# EAGLE library part CD4067BEE4 (library CD4067BEE4)
Analog Multiplexer Single 16:1 Source: Datasheet <https://pdf1.alldatasheet.com/datasheet-pdf/view/551558/TI/CD4067BEE4.html>
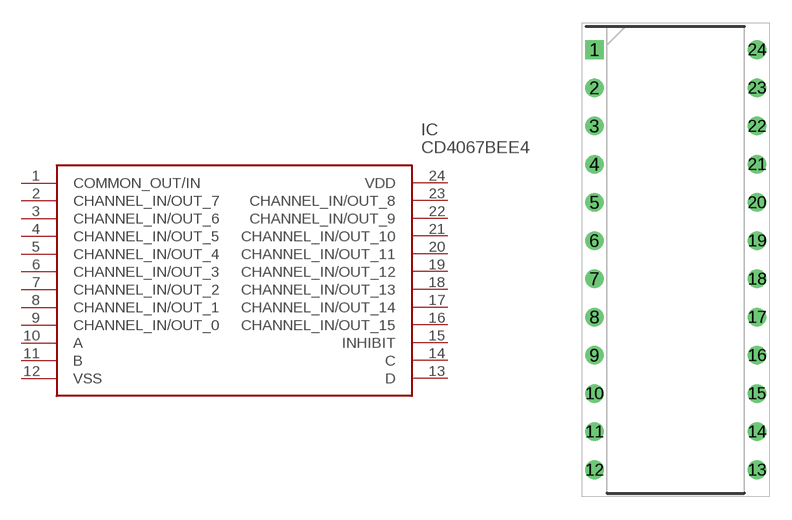
[diagram p0: symbol with the pads of DIP1080W53P254L3104H508Q24N; footprint DIP1080W53P254L3104H508Q24N]

Designator prefix IC

## CD4067BEE4 (Description: Analog Multiplexer Single 16:1; Height: 5.08mm; Manufacturer_Name: Texas Instruments; Manufacturer_Part_Number: CD4067BEE4; Mouser_Part_Number: 595-CD4067BEE4; Mouser_Price-Stock: https://www.mouser.co.uk/ProductDetail/Texas-Instruments/CD4067BEE4?qs=LSR%252BNeaw%2FwAOj6GB2EY6rw%3D%3D)  [DIP1080W53P254L3104H508Q24N]
1  COMMON_OUT/IN
2  CHANNEL_IN/OUT_7
3  CHANNEL_IN/OUT_6
4  CHANNEL_IN/OUT_5
5  CHANNEL_IN/OUT_4
6  CHANNEL_IN/OUT_3
7  CHANNEL_IN/OUT_2
8  CHANNEL_IN/OUT_1
9  CHANNEL_IN/OUT_0
10  A
11  B
12  VSS
13  D
14  C
15  INHIBIT
16  CHANNEL_IN/OUT_15
17  CHANNEL_IN/OUT_14
18  CHANNEL_IN/OUT_13
19  CHANNEL_IN/OUT_12
20  CHANNEL_IN/OUT_11
21  CHANNEL_IN/OUT_10
22  CHANNEL_IN/OUT_9
23  CHANNEL_IN/OUT_8
24  VDD

## Footprint DIP1080W53P254L3104H508Q24N (pad centres in mm)
N(R-PDIP-T24)
drill 0.73 pad 1.13 square: 1 -5.4,13.97
drill 0.73 pad 1.13: 2 -5.4,11.43; 3 -5.4,8.89; 4 -5.4,6.35; 5 -5.4,3.81; 6 -5.4,1.27; 7 -5.4,-1.27; 8 -5.4,-3.81; 9 -5.4,-6.35; 10 -5.4,-8.89; 11 -5.4,-11.43; 12 -5.4,-13.97; 13 5.4,-13.97; 14 5.4,-11.43; 15 5.4,-8.89; 16 5.4,-6.35; 17 5.4,-3.81; 18 5.4,-1.27; 19 5.4,1.27; 20 5.4,3.81; 21 5.4,6.35; 22 5.4,8.89; 23 5.4,11.43; 24 5.4,13.97